# Altium footprint library AdapterBoardPCBLIB.PcbLib: 1 footprints
Each footprint in its own frame and in the unit in brackets; x right, y up, seen from the top. Pads: shape width x height; smd on the part's side, far side on the other; paste and mask are expansions set on the pad; w line width, h text height; cw(c..) or ccw(c..) is an arc to the next point about the centre after c.
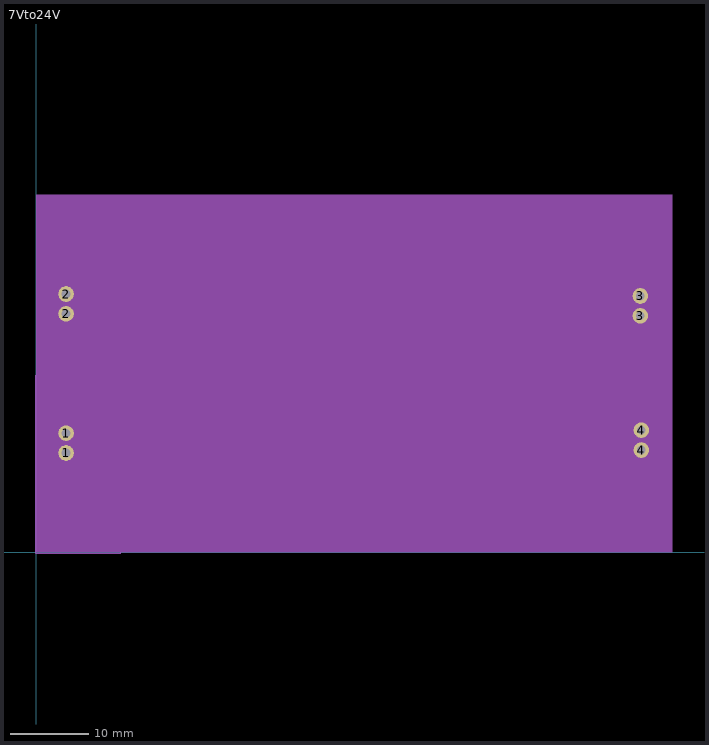
[diagram p0: the footprint, top view; thin cyan lines are the x and y axes]

## 7Vto24V [mm] "7V to 24 V converter"
height 1.575
pads (8):
  round 2 hole 1.1: 1(3.81,12.7) 1(3.81,15.24) 2(3.81,30.48) 2(3.81,33.02) 3(77.216,30.226) 3(77.216,32.766) 4(77.343,13.081) 4(77.343,15.621)
Mechanical 15:
  region: 0,0 0,45.72 81.28,45.72 81.28,0
  lines w0.152: -0.051,-0.127 -0.051,22.606 10.795,22.606 10.795,-0.127 -0.051,-0.127
3D body: height 0.25, standoff 0, extent 1.016,0.889 80.645,44.577